# Altium schematic symbol library GM_Tube.SchLib: 1 symbol
Pins are listed as number, name and electrical type; pins without a type are passive.

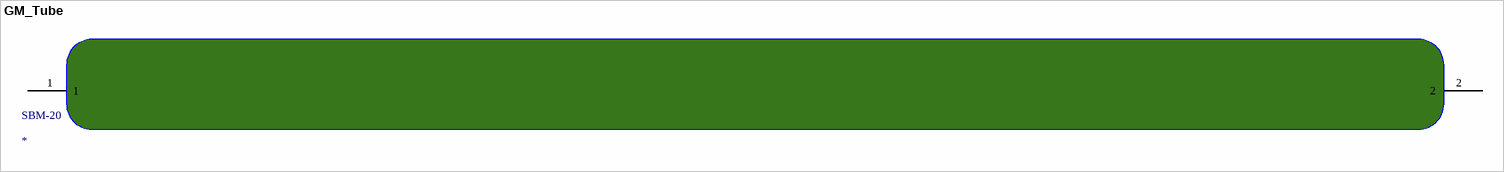
[diagram p0: symbol GM_Tube]

## GM_Tube
designator SBM-20
Geiger-Muller Tube, sensitive to beta and gamma radiation
pins: 1, 2